# EAGLE library part LTC1733 (library linear-technology)
Monolithic Linear Lithium-Ion Battery Charger with Thermal Regulation Source: http://cds.linear.com/docs/en/datasheet/1733fs.pdf
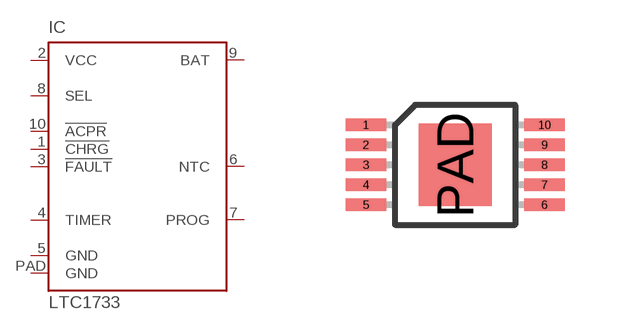
[diagram p0: symbol with the pads of MSOP10; footprint MSOP10]

Designator prefix IC

## LTC1733  [MSOP10]
1  !CHRG  oc
2  VCC  pwr
3  !FAULT  oc
4  TIMER  out
5  GND  pwr
6  NTC  in
7  PROG  in
8  SEL  in
9  BAT  out
10  !ACPR  oc
PAD  GND  pwr

## Footprint MSOP10 (pad centres in mm)
smd 1.016 x 0.305: 1 -2.234,1; 2 -2.234,0.5; 3 -2.234,0; 4 -2.234,-0.5; 5 -2.234,-1; 6 2.234,-1; 7 2.234,-0.5; 8 2.234,0; 9 2.234,0.5; 10 2.234,1
smd 1.83 x 2.06: PAD 0,0